# Altium footprint library 电子脚铐便携式主控板V3-改版.PcbLib: 17 footprints (part 2 of 2)
Each footprint in its own frame and in the unit in brackets; x right, y up, seen from the top. Pads: shape width x height; smd on the part's side, far side on the other; paste and mask are expansions set on the pad; w line width, h text height; cw(c..) or ccw(c..) is an arc to the next point about the centre after c.
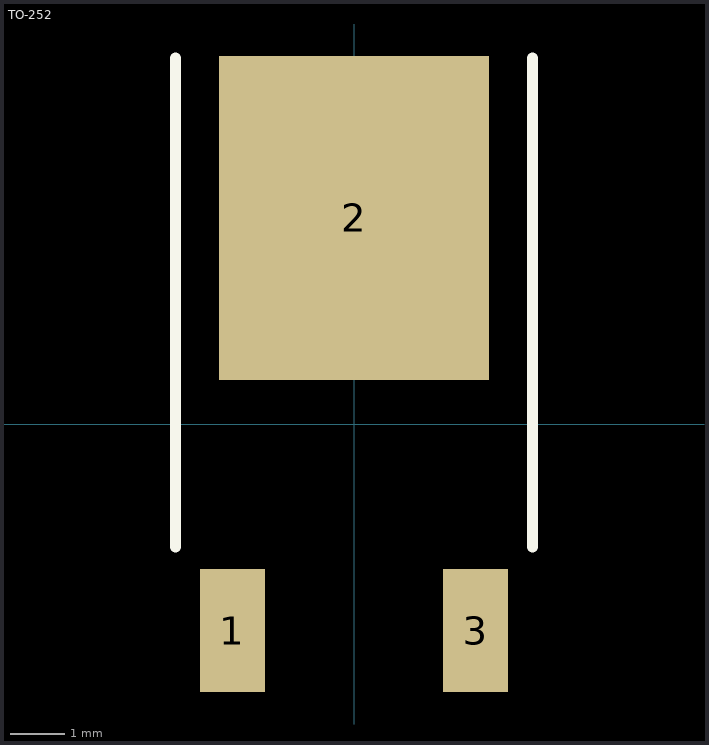
[diagram p1: the footprint, top view; thin cyan lines are the x and y axes]

## TO-252 [mm]
height 2.4
pads (3):
  rect 1.2x2.28 smd: 1(-2.25,-3.816) 3(2.25,-3.816)
  rect 5x6 smd: 2(0,3.816)
Top Overlay:
  lines w0.203: -3.3,-2.274 -3.3,6.776 ; 3.3,-2.274 3.3,6.776
3D body: height 2.3, standoff 0, extent -3.25,-3.62 3.25,5.68